# Altium footprint library APSS Prototype Parts.PcbLib: 38 footprints (part 3 of 3)
Each footprint in its own frame and in the unit in brackets; x right, y up, seen from the top. Pads: shape width x height; smd on the part's side, far side on the other; paste and mask are expansions set on the pad; w line width, h text height; cw(c..) or ccw(c..) is an arc to the next point about the centre after c.
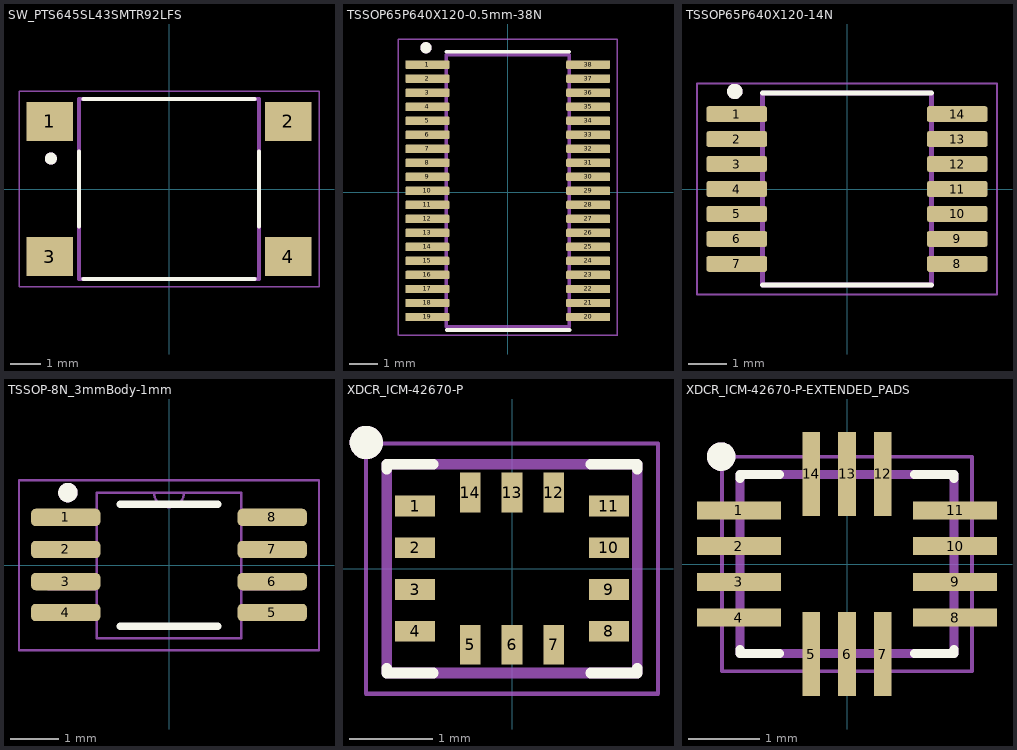
[diagram p2: the footprints below, top view; thin cyan lines are the x and y axes]

## SW_PTS645SL43SMTR92LFS [mm]
height 4.4
pads (4):
  rect 1.55x1.3 smd: 1(-3.975,2.25) 2(3.975,2.25) 3(-3.975,-2.25) 4(3.975,-2.25)
Top Overlay:
  circle w0.2: c-3.937,1.016 r0.1
  lines w0.127: -3,-1.25 -3,1.25 ; -2.85,-3 2.85,-3 ; -2.85,3 2.85,3 ; 3,-1.25 3,1.25
Mechanical 13:
  circle w0.2: c-3.937,1.016 r0.1
  lines w0.127: -3,-3 3,-3 3,3 -3,3 -3,-3
Mechanical 15:
  lines w0.05: -5,-3.25 5,-3.25 5,3.25 -5,3.25 -5,-3.25
3D body "TS6-SMT_H-4.3.step": height 4.3, standoff 0, extent -4,-3 4,3

## TSSOP65P640X120-0.5mm-38N [mm] "TSSOP/MSOP/VSSOP, 0.5mm pitch, 4.4mm wide, 38 pin nominal, 1.2mm high"
height 1.2
pads (38):
  rrect25% 1.57x0.3 smd mask+0.051: 1(-2.87,4.55) 2(-2.87,4.05) 3(-2.87,3.55) 4(-2.87,3.05) 5(-2.87,2.55) 6(-2.87,2.05) 7(-2.87,1.55) 8(-2.87,1.05) 9(-2.87,0.55) 10(-2.87,0.05) 11(-2.87,-0.45) 12(-2.87,-0.95) 13(-2.87,-1.45) 14(-2.87,-1.95) 15(-2.87,-2.45) 16(-2.87,-2.95) 17(-2.87,-3.45) 18(-2.87,-3.95) 19(-2.87,-4.45) 20(2.87,-4.45) 21(2.87,-3.95) 22(2.87,-3.45) 23(2.87,-2.95) 24(2.87,-2.45) 25(2.87,-1.95) 26(2.87,-1.45) 27(2.87,-0.95) 28(2.87,-0.45) 29(2.87,0.05) 30(2.87,0.55) 31(2.87,1.05) 32(2.87,1.55) 33(2.87,2.05) 34(2.87,2.55) 35(2.87,3.05) 36(2.87,3.55) 37(2.87,4.05) 38(2.87,4.55)
Top Overlay:
  circle w0.2: c-2.921,5.156 r0.1
  lines w0.127: -2.2,5.015 2.2,5.015 ; -2.184,-4.913 2.216,-4.913
Mechanical 13:
  circle w0.2: c-2.921,5.156 r0.1
  lines w0.127: -2.2,-4.801 2.2,-4.801 2.2,4.902 -2.2,4.902 -2.2,-4.801
Mechanical 15:
  lines w0.05: -3.905,-5.101 -3.905,5.468 3.905,5.468 3.905,-5.101 ; -3.889,-5.101 3.921,-5.101
3D body "TSSOP-38 0.50p 4.4mm Pad.step": height 1, standoff 0, extent -3.15,-4.799 3.15,4.901

## TSSOP65P640X120-14N [mm] "TSSOP/MSOP/VSSOP, 4.4mm wide, 14 pin nominal, 1.2mm high"
height 1.2
pads (14):
  rrect25% 1.57x0.41 smd mask+0.051: 1(-2.87,1.95) 2(-2.87,1.3) 3(-2.87,0.65) 4(-2.87,0) 5(-2.87,-0.65) 6(-2.87,-1.3) 7(-2.87,-1.95) 8(2.87,-1.95) 9(2.87,-1.3) 10(2.87,-0.65) 11(2.87,0) 12(2.87,0.65) 13(2.87,1.3) 14(2.87,1.95)
Top Overlay:
  circle w0.2: c-2.921,2.54 r0.1
  lines w0.127: -2.2,-2.5 2.2,-2.5 ; -2.2,2.5 2.2,2.5
Mechanical 13:
  circle w0.2: c-2.921,2.54 r0.1
  lines w0.127: -2.2,-2.5 -2.2,2.5 2.2,2.5 2.2,-2.5 -2.2,-2.5
Mechanical 15:
  lines w0.05: -3.905,-2.75 -3.905,2.75 3.905,2.75 3.905,-2.75 -3.905,-2.75
3D body "TLV9004IPWR.step": height 1.2, standoff 0, extent -3.2,-2.5 3.2,2.5

## TSSOP-8N_3mmBody-1mm [mil] "TSSOP, 0.65mm pitch, 3mm body, 1mm high, nominal pads"
height 39.37
pads (8):
  rrect50% 56x14 smd mask+2: 1(-83.61,38.62) 2(-83.61,12.62) 3(-83.61,-13.38) 4(-83.61,-38.38) 5(83.61,-38.38) 6(83.61,-13.38) 7(83.61,12.62) 8(83.61,38.62)
Top Overlay:
  circle w7.87: c-81.89,58.66 r3.94
  lines w6: -39.37,-49.41 39.37,-49.41 ; -39.37,49.41 39.37,49.41
Mechanical 13:
  circle w7.87: c-81.89,58.66 r3.94
  lines w2: -12,58.66 ccw(c0,58.66) 12,58.66 ; -97.61,-44.38 -97.61,-32.38 ; -97.61,-44.38 -58.61,-44.38 ; -97.61,-44.38 -97.61,-32.38 ; -97.61,-44.38 -58.61,-44.38 ; -97.61,-32.38 -58.61,-32.38 ; -97.61,-32.38 -58.61,-32.38 ; -97.61,-19.38 -97.61,-7.38 ; -97.61,-19.38 -58.61,-19.38 ; -97.61,-19.38 -97.61,-7.38 ; -97.61,-19.38 -58.61,-19.38 ; -97.61,-7.38 -58.61,-7.38 ; -97.61,-7.38 -58.61,-7.38 ; -97.61,6.62 -97.61,18.62 ; -97.61,6.62 -58.61,6.62 ; -97.61,6.62 -97.61,18.62 ; -97.61,6.62 -58.61,6.62 ; -97.61,18.62 -58.61,18.62 ; -97.61,18.62 -58.61,18.62 ; -97.61,32.62 -97.61,43.62 ; -97.61,32.62 -58.61,32.62 ; -97.61,32.62 -97.61,43.62 ; -97.61,32.62 -58.61,32.62 ; -97.61,43.62 -58.61,43.62 ; -97.61,43.62 -58.61,43.62 ; -58.61,-44.38 -58.61,-32.38 ; -58.61,-44.38 -58.61,-32.38 ; -58.61,-19.38 -58.61,-7.38 ; -58.61,-19.38 -58.61,-7.38 ; -58.61,6.62 -58.61,18.62 ; -58.61,6.62 -58.61,18.62 ; -58.61,32.62 -58.61,43.62 ; -58.61,32.62 -58.61,43.62 ; 58.61,-44.38 58.61,-32.38 ; 58.61,-44.38 97.61,-44.38 ; 58.61,-44.38 58.61,-32.38 ; 58.61,-44.38 97.61,-44.38 ; 58.61,-32.38 97.61,-32.38 ; 58.61,-32.38 97.61,-32.38 ; 58.61,-19.38 58.61,-7.38 ; 58.61,-19.38 97.61,-19.38 ; 58.61,-19.38 58.61,-7.38 ; 58.61,-19.38 97.61,-19.38 ; 58.61,-7.38 97.61,-7.38 ; 58.61,-7.38 97.61,-7.38 ; 58.61,6.62 58.61,18.62 ; 58.61,6.62 97.61,6.62 ; 58.61,6.62 58.61,18.62 ; 58.61,6.62 97.61,6.62 ; 58.61,18.62 97.61,18.62 ; 58.61,18.62 97.61,18.62 ; 58.61,32.62 58.61,43.62 ; 58.61,32.62 97.61,32.62 ; 58.61,32.62 58.61,43.62 ; 58.61,32.62 97.61,32.62 ; 58.61,43.62 97.61,43.62 ; 58.61,43.62 97.61,43.62 ; 97.61,-44.38 97.61,-32.38 ; 97.61,-44.38 97.61,-32.38 ; 97.61,-19.38 97.61,-7.38 ; 97.61,-19.38 97.61,-7.38 ; 97.61,6.62 97.61,18.62 ; 97.61,6.62 97.61,18.62 ; 97.61,32.62 97.61,43.62 ; 97.61,32.62 97.61,43.62 ; -58.61,-59.06 -58.61,58.66 -21.28,58.66 21.28,58.66 58.61,58.66 58.61,-59.06 -58.61,-59.06
Mechanical 15:
  lines w1.97: -121.42,-68.9 -121.42,68.5 121.42,68.5 121.42,-68.9 -121.42,-68.9
3D body "ADA4096-2ARMZ-RL.STEP": height 43.31, standoff 0, extent -96.46,-59.06 96.45,59.05

## XDCR_ICM-42670-P [mm]
height 0.81
pads (14):
  rect 0.475x0.25 smd paste-1 mask+0.05: 1(-1.162,0.75) 2(-1.162,0.25) 3(-1.162,-0.25) 4(-1.162,-0.75) 8(1.162,-0.75) 9(1.162,-0.25) 10(1.162,0.25) 11(1.162,0.75)
  rect 0.25x0.475 smd paste-1 mask+0.05: 5(-0.5,-0.913) 6(0,-0.913) 7(0.5,-0.913) 12(0.5,0.913) 13(0,0.913) 14(-0.5,0.913)
Top Overlay:
  circle w0.2: c-1.746,1.512 r0.1
  lines w0.127: -1.5,-1.195 -1.5,-1.25 -0.945,-1.25 ; -1.5,1.195 -1.5,1.25 -0.945,1.25 ; 0.945,-1.25 1.5,-1.25 1.5,-1.195 ; 0.945,1.25 1.5,1.25 1.5,1.195
Top Paste:
  region: -0.381,-1.138 -0.619,-1.138 -0.619,-0.687 -0.381,-0.687
  region: 0.619,-1.138 0.381,-1.138 0.381,-0.687 0.619,-0.687
  region: 0.119,-1.138 -0.119,-1.138 -0.119,-0.687 0.119,-0.687
  region: -0.381,0.687 -0.619,0.687 -0.619,1.138 -0.381,1.138
  region: 0.619,0.687 0.381,0.687 0.381,1.138 0.619,1.138
  region: 0.119,0.687 -0.119,0.687 -0.119,1.138 0.119,1.138
  region: 1.388,0.631 0.937,0.631 0.937,0.869 1.388,0.869
  region: 1.388,-0.869 0.937,-0.869 0.937,-0.631 1.388,-0.631
  region: 1.388,-0.369 0.937,-0.369 0.937,-0.131 1.388,-0.131
  region: 1.388,0.131 0.937,0.131 0.937,0.369 1.388,0.369
  region: -0.937,0.631 -1.388,0.631 -1.388,0.869 -0.937,0.869
  region: -0.937,-0.869 -1.388,-0.869 -1.388,-0.631 -0.937,-0.631
  region: -0.937,-0.369 -1.388,-0.369 -1.388,-0.131 -0.937,-0.131
  region: -0.937,0.131 -1.388,0.131 -1.388,0.369 -0.937,0.369
Mechanical 13:
  circle w0.2: c-1.746,1.512 r0.1
  lines w0.127: -1.5,-1.25 -1.5,1.25 1.5,1.25 1.5,-1.25 -1.5,-1.25
Mechanical 15:
  lines w0.05: -1.75,-1.5 1.75,-1.5 1.75,1.5 -1.75,1.5 -1.75,-1.5
3D body "step_temp.STEP": height 0.81, standoff 0, extent -1.5,-1.25 1.5,1.25

## XDCR_ICM-42670-P-EXTENDED_PADS [mm]
height 0.81
pads (14):
  rect 1.175x0.25 smd paste-1 mask+0.05: 1(-1.512,0.75) 2(-1.512,0.25) 3(-1.512,-0.25) 4(-1.512,-0.75) 8(1.512,-0.75) 9(1.512,-0.25) 10(1.512,0.25) 11(1.512,0.75)
  rect 0.25x1.175 smd paste-1 mask+0.05: 5(-0.5,-1.262) 6(0,-1.262) 7(0.5,-1.262) 12(0.5,1.262) 13(0,1.262) 14(-0.5,1.262)
Top Overlay:
  circle w0.2: c-1.761,1.504 r0.1
  lines w0.127: -1.5,-1.195 -1.5,-1.25 -0.945,-1.25 ; -1.5,1.195 -1.5,1.25 -0.945,1.25 ; 0.945,-1.25 1.5,-1.25 1.5,-1.195 ; 0.945,1.25 1.5,1.25 1.5,1.195
Top Paste:
  region: -0.381,-1.138 -0.619,-1.138 -0.619,-0.687 -0.381,-0.687
  region: 0.619,-1.138 0.381,-1.138 0.381,-0.687 0.619,-0.687
  region: 0.119,-1.138 -0.119,-1.138 -0.119,-0.687 0.119,-0.687
  region: -0.381,0.687 -0.619,0.687 -0.619,1.138 -0.381,1.138
  region: 0.619,0.687 0.381,0.687 0.381,1.138 0.619,1.138
  region: 0.119,0.687 -0.119,0.687 -0.119,1.138 0.119,1.138
  region: 1.388,0.631 0.937,0.631 0.937,0.869 1.388,0.869
  region: 1.388,-0.869 0.937,-0.869 0.937,-0.631 1.388,-0.631
  region: 1.388,-0.369 0.937,-0.369 0.937,-0.131 1.388,-0.131
  region: 1.388,0.131 0.937,0.131 0.937,0.369 1.388,0.369
  region: -0.937,0.631 -1.388,0.631 -1.388,0.869 -0.937,0.869
  region: -0.937,-0.869 -1.388,-0.869 -1.388,-0.631 -0.937,-0.631
  region: -0.937,-0.369 -1.388,-0.369 -1.388,-0.131 -0.937,-0.131
  region: -0.937,0.131 -1.388,0.131 -1.388,0.369 -0.937,0.369
Mechanical 13:
  circle w0.2: c-1.761,1.504 r0.1
  lines w0.127: -1.5,-1.25 -1.5,1.25 1.5,1.25 1.5,-1.25 -1.5,-1.25
Mechanical 15:
  lines w0.05: -1.75,-1.5 1.75,-1.5 1.75,1.5 -1.75,1.5 -1.75,-1.5
3D body "step_temp.STEP": height 0.81, standoff 0, extent -1.5,-1.25 1.5,1.25